# Altium footprint library PcbLib.PcbLib: 43 footprints (part 3 of 3)
Each footprint in its own frame and in the unit in brackets; x right, y up, seen from the top. Pads: shape width x height; smd on the part's side, far side on the other; paste and mask are expansions set on the pad; w line width, h text height; cw(c..) or ccw(c..) is an arc to the next point about the centre after c.
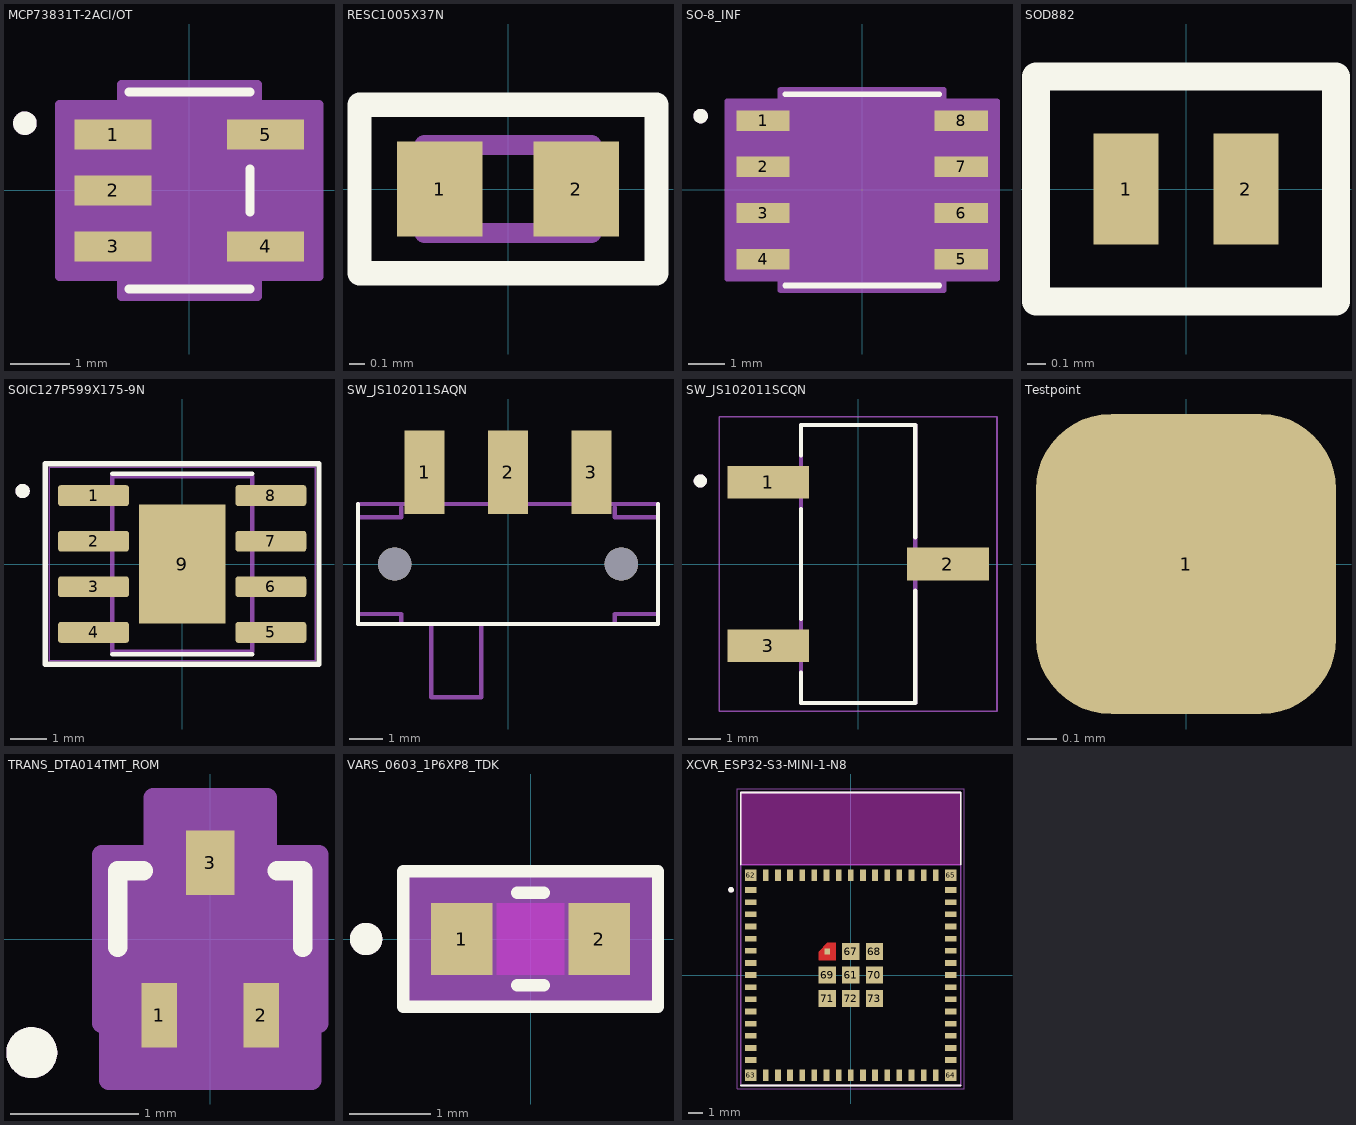
[diagram p2: the footprints below, top view; thin cyan lines are the x and y axes]

## MCP73831T-2ACI/OT [mil]
pads (5):
  rect 51.56x20 smd paste+0 mask+0: 1(-51,37.4) 2(-51,0) 3(-51,-37.4) 4(51,-37.4) 5(51,37.4)
Top Overlay:
  circle w7.87: c-110,45 r3.94
  lines w6: -40.5,-66 40.5,-66 ; -40.5,66 40.5,66 ; 40.5,-14.3 40.5,14.3
Top 3D Body:
  circle w7.87: c-110,45 r3.94
  lines w1: -12,61 ccw(c0,61) 12,61 ; -63,-47.4 -63,-27.4 -35.5,-27.4 -35.5,-47.4 -63,-47.4 ; -63,-10 -63,10 -35.5,10 -35.5,-10 -63,-10 ; -63,27.4 -63,47.4 -35.5,47.4 -35.5,27.4 -63,27.4 ; -35.5,-61 35.5,-61 35.5,61 -35.5,61 -35.5,-61 ; 35.5,-47.4 35.5,-27.4 63,-27.4 63,-47.4 35.5,-47.4 ; 35.5,27.4 35.5,47.4 63,47.4 63,27.4 35.5,27.4
Top Courtyard:
  region: 45.5,-71 -45.5,-71 -45.5,-57.4 -86.78,-57.4 -86.78,57.4 -45.5,57.4 -45.5,71 45.5,71 45.5,57.4 86.78,57.4 86.78,-57.4 45.5,-57.4
  lines w6: -86.78,-57.4 -45.5,-57.4 -45.5,-71 45.5,-71 45.5,-57.4 86.78,-57.4 86.78,57.4 45.5,57.4 45.5,71 -45.5,71 -45.5,57.4 -86.78,57.4 -86.78,-57.4
3D body "SOT-23-5_MC_MCH.step": height 57.09, standoff 0, extent -62.99,-60.98 62.99,60.98

## RESC1005X37N [mm]
pads (2):
  rect 0.54x0.6 smd: 1(-0.432,0) 2(0.432,0)
Top Overlay:
  lines w0.152: -0.94,-0.533 -0.94,0.533 0.94,0.533 0.94,-0.533 -0.94,-0.533
Top 3D Body:
  lines w0.127: -0.53,-0.28 0.53,-0.28 0.53,0.28 -0.53,0.28 -0.53,-0.28
Top Courtyard:
  lines w0.05: -0.95,-0.55 0.95,-0.55 0.95,0.55 -0.95,0.55 -0.95,-0.55
3D body "step_temp.STEP": height 0.37, standoff 0, extent -0.5,-0.25 0.5,0.25

## SO-8_INF [mil]
pads (8):
  rect 57.5x22 smd paste+0 mask+0: 1(-107.25,75) 2(-107.25,25) 3(-107.25,-25) 4(-107.25,-75) 5(107.25,-75) 6(107.25,-25) 7(107.25,25) 8(107.25,75)
Top Overlay:
  circle w7.87: c-175,80 r3.94
  lines w6: -83.5,-103.5 83.5,-103.5 ; -83.5,103.5 83.5,103.5
Top 3D Body:
  circle w7.87: c-175,80 r3.94
  lines w1: -12,98.5 ccw(c0,98.5) 12,98.5 ; -122,-85 -122,-65 -78.5,-65 -78.5,-85 -122,-85 ; -122,-35 -122,-15 -78.5,-15 -78.5,-35 -122,-35 ; -122,15 -122,35 -78.5,35 -78.5,15 -122,15 ; -122,65 -122,85 -78.5,85 -78.5,65 -122,65 ; -78.5,-98.5 78.5,-98.5 78.5,98.5 -78.5,98.5 -78.5,-98.5 ; 78.5,-85 78.5,-65 122,-65 122,-85 78.5,-85 ; 78.5,-35 78.5,-15 122,-15 122,-35 78.5,-35 ; 78.5,15 78.5,35 122,35 122,15 78.5,15 ; 78.5,65 78.5,85 122,85 122,65 78.5,65
Top Courtyard:
  region: -88.5,-96 -146,-96 -146,96 -88.5,96 -88.5,108.5 88.5,108.5 88.5,96 146,96 146,-96 88.5,-96 88.5,-108.5 -88.5,-108.5
  lines w6: -146,-96 -146,96 -88.5,96 -88.5,108.5 88.5,108.5 88.5,96 146,96 146,-96 88.5,-96 88.5,-108.5 -88.5,-108.5 -88.5,-96 -146,-96
3D body "SO-8_INF.step": height 69.09, standoff 0, extent -122.01,-98.5 122.01,98.5

## SOD882 [mm]
pads (2):
  rect 0.35x0.6 smd: 1(-0.325,0) 2(0.325,0)
Top Overlay:
  lines w0.152: -0.813,-0.61 0.813,-0.61 ; -0.813,-0.584 -0.813,0.61 0.813,0.61 0.813,-0.584
3D body "AQ3045-01ETG.STEP": height 0.56, standoff 0.01, extent -0.5,-0.3 0.5,0.3

## SOIC127P599X175-9N [mm]
pads (9):
  rrect25% 1.97x0.58 smd paste+0 mask+0.102: 1(-2.47,1.905) 2(-2.47,0.635) 3(-2.47,-0.635) 4(-2.47,-1.905) 5(2.47,-1.905) 6(2.47,-0.635) 7(2.47,0.635) 8(2.47,1.905)
  rect 2.413x3.302 smd paste-3 mask+0.102: 9(0,0)
Top Overlay:
  circle w0.2: c-4.445,2.032 r0.1
  lines w0.127: -1.949,-2.515 1.949,-2.515 ; -1.949,2.515 1.949,2.515
  lines w0.152: -3.81,-2.794 -3.81,2.794 3.81,2.794 3.81,-2.794 -3.81,-2.794
Top Paste:
  region: 0.76,-1.04 -0.76,-1.04 -0.76,1.04 0.76,1.04
Top 3D Body:
  circle w0.2: c-4.445,2.032 r0.1
  lines w0.127: -1.949,-2.445 -1.949,2.445 1.949,2.445 1.949,-2.445 -1.949,-2.445
Top Courtyard:
  lines w0.05: -3.705,-2.695 -3.705,2.695 3.705,2.695 3.705,-2.695 -3.705,-2.695
3D body "RT7258GSP.STEP": height 1.77, standoff 0.01, extent -2.998,-2.451 2.998,2.451

## SW_JS102011SAQN [mm]
pads (5):
  rect 1.2x2.5 smd: 1(-2.5,2.75) 2(0,2.75) 3(2.5,2.75)
  round 1 hole 1 unplated: ""(-3.4,0) ""(3.4,0)
Top Overlay:
  lines w0.127: -4.5,1.8 -4.5,-1.8 4.5,-1.8 4.5,1.8
Top 3D Body:
  region: -2.2,1.801 -2.801,1.801 -2.801,3.7 -2.2,3.7
  region: -2.2,1.801 -2.801,1.801 -2.801,3.7 -2.2,3.7
  region: 0.3,1.8 -0.3,1.8 -0.3,3.7 0.3,3.7
  region: 2.8,1.803 2.204,1.803 2.204,3.7 2.8,3.7
  lines w0.127: -4.5,-1.5 -3.2,-1.5 -3.2,-1.8 ; -4.5,1.4 -3.2,1.4 -3.2,1.7 ; -4.5,1.8 4.5,1.8 ; -2.3,-1.8 -2.3,-4 -0.8,-4 -0.8,-1.8 ; 3.2,-1.8 3.2,-1.5 4.5,-1.5 ; 3.2,1.7 3.2,1.4 4.5,1.4
3D body "step_temp.STEP": height 3.22, standoff -1.08, extent -4.5,-3.75 4.5,3.75

## SW_JS102011SCQN [mm]
height 5.5
pads (3):
  rect 2.5x1 smd: 1(-2.75,2.5) 2(2.75,0) 3(-2.75,-2.5)
Top Overlay:
  circle w0.2: c-4.826,2.54 r0.1
  lines w0.127: -1.75,-3.32 -1.75,-4.25 1.75,-4.25 1.75,-0.82 ; -1.75,-1.68 -1.75,1.68 ; -1.75,3.32 -1.75,4.25 1.75,4.25 1.75,0.82
Top 3D Body:
  circle w0.2: c-4.826,2.54 r0.1
  lines w0.127: -1.75,-4.25 1.75,-4.25 1.75,4.25 -1.75,4.25 -1.75,-4.25
Top Courtyard:
  lines w0.05: -4.25,-4.5 4.25,-4.5 4.25,4.5 -4.25,4.5 -4.25,-4.5
3D body "JS102011SCQN.stp": height 5.51, standoff 0.01, extent -3.75,-4.25 3.75,4.25

## Testpoint [mil]
pads (1):
  rrect50% 40x40 smd paste-99999 mask+4: 1(0,0)

## TRANS_DTA014TMT_ROM [mil]
pads (3):
  rect 11x20 smd paste+0 mask+0: 1(-15.75,-23.5) 2(15.75,-23.5)
  rect 15x20 smd paste+0 mask+0: 3(0,23.5)
Top Overlay:
  circle w7.87: c-55,-35 r3.94
  lines w6: -28.5,-2.59 -28.5,21 -20.6,21 ; 20.6,21 28.5,21 28.5,-2.59
Top 3D Body:
  circle w7.87: c-55,-35 r3.94
  circle w0: c-13.5,-6 r5
  lines w1: -23.5,-16 -23.5,16 23.5,16 23.5,-16 -23.5,-16 ; -21.25,-25.5 -10.25,-25.5 -10.25,-16 -21.25,-16 -21.25,-25.5 ; -7.5,16 -7.5,25.5 7.5,25.5 7.5,16 -7.5,16 ; 10.25,-25.5 21.25,-25.5 21.25,-16 10.25,-16 10.25,-25.5
Top Courtyard:
  region: 23.5,-16 -23.5,-16 -23.5,16 23.5,16
  region: -33.5,-26 -33.5,26 -17.5,26 -17.5,43.5 17.5,43.5 17.5,26 33.5,26 33.5,-26 31.25,-26 31.25,-43.5 -31.25,-43.5 -31.25,-26
  lines w6: -33.5,-26 -31.25,-26 -31.25,-43.5 31.25,-43.5 31.25,-26 33.5,-26 33.5,26 17.5,26 17.5,43.5 -17.5,43.5 -17.5,26 -33.5,26 -33.5,-26
3D body "TRANS_DTA014TMT_ROM.step": height 24.09, standoff 0, extent -23.5,-19.51 23.5,19.51

## VARS_0603_1P6XP8_TDK [mil]
pads (2):
  rect 30x35 smd paste+0 mask+0: 1(-33.5,0) 2(33.5,0)
Top Layer keep-out:
  region: -16.5,-15.5 -16.5,15.5 16.5,15.5 16.5,-15.5
Top Overlay:
  circle w7.87: c-80,0 r3.94
  lines w6: -6.39,-22.5 6.39,-22.5 ; -6.39,22.5 6.39,22.5 ; -62,-33 62,-33 62,33 -62,33 -62,-33
Keep-Out Layer:
  region: -16.5,-17.5 -16.5,17.5 16.5,17.5 16.5,-17.5
Top 3D Body:
  circle w7.87: c-80,0 r3.94
  circle w1: c-28.5,0 r3
  lines w1: -34.5,-17.5 -34.5,17.5 ; -34.5,-17.5 -18.5,-17.5 -18.5,17.5 -34.5,17.5 ; -34.5,-17.5 34.5,-17.5 ; -34.5,-17.5 -34.5,17.5 ; -34.5,17.5 34.5,17.5 ; 34.5,-17.5 18.5,-17.5 18.5,17.5 34.5,17.5 ; 34.5,-17.5 34.5,17.5 ; 34.5,-17.5 34.5,17.5
Top Courtyard:
  region: 58.5,-27.5 -58.5,-27.5 -58.5,27.5 58.5,27.5
  lines w6: -58.5,-27.5 -58.5,27.5 58.5,27.5 58.5,-27.5 -58.5,-27.5
3D body "VARS_0603_1P6XP8_TDK.step": height 35, standoff 0, extent -34.49,-17.48 34.49,17.48

## XCVR_ESP32-S3-MINI-1-N8 [mm]
height 2.55
pads (73):
  rect 0.8x0.4 smd: 1(-7,5.95) 2(-7,5.1) 3(-7,4.25) 4(-7,3.4) 5(-7,2.55) 6(-7,1.7) 7(-7,0.85) 8(-7,0) 9(-7,-0.85) 10(-7,-1.7) 11(-7,-2.55) 12(-7,-3.4) 13(-7,-4.25) 14(-7,-5.1) 15(-7,-5.95) 31(7,-5.95) 32(7,-5.1) 33(7,-4.25) 34(7,-3.4) 35(7,-2.55) 36(7,-1.7) 37(7,-0.85) 38(7,0) 39(7,0.85) 40(7,1.7) 41(7,2.55) 42(7,3.4) 43(7,4.25) 44(7,5.1) 45(7,5.95)
  rect 0.4x0.8 smd: 16(-5.95,-7) 17(-5.1,-7) 18(-4.25,-7) 19(-3.4,-7) 20(-2.55,-7) 21(-1.7,-7) 22(-0.85,-7) 23(0,-7) 24(0.85,-7) 25(1.7,-7) 26(2.55,-7) 27(3.4,-7) 28(4.25,-7) 29(5.1,-7) 30(5.95,-7) 46(5.95,7) 47(5.1,7) 48(4.25,7) 49(3.4,7) 50(2.55,7) 51(1.7,7) 52(0.85,7) 53(0,7) 54(-0.85,7) 55(-1.7,7) 56(-2.55,7) 57(-3.4,7) 58(-4.25,7) 59(-5.1,7) 60(-5.95,7)
  rect 1.2x1.2 smd: 61(0,0) 67(0,1.65) 68(1.65,1.65) 69(-1.65,0) 70(1.65,0) 71(-1.65,-1.65) 72(0,-1.65) 73(1.65,-1.65)
  rect 0.8x0.8 smd: 62(-7,7) 63(-7,-7) 64(7,-7) 65(7,7)
  rect 0.4x0.4 smd paste-1 mask+0: 66(-1.65,1.65)
Top Layer:
  region: -1.05,1.05 -2.25,1.05 -2.25,1.65 -1.65,2.25 -1.05,2.25
Top Overlay:
  circle w0.2: c-8.382,5.969 r0.1
  lines w0.127: -7.7,-7.725 7.7,-7.725 ; -7.7,7.725 -7.7,12.775 7.7,12.775 7.7,7.725
Top Paste:
  region: -1.05,1.05 -2.25,1.05 -2.25,1.65 -1.65,2.25 -1.05,2.25
Top Solder:
  region: -0.95,0.95 -2.35,0.95 -2.35,1.7 -1.7,2.35 -0.95,2.35
Keep-Out Layer:
  region: 7.7,7.725 -7.7,7.725 -7.7,12.775 7.7,12.775
  region: 7.7,7.725 -7.7,7.725 -7.7,12.775 7.7,12.775
Top 3D Body:
  circle w0.2: c-8.382,5.969 r0.1
  lines w0.127: -7.7,7.725 -7.7,-7.725 7.7,-7.725 7.7,7.725 ; -7.7,7.725 -7.7,12.775 7.7,12.775 7.7,7.725 ; -7.7,7.725 7.7,7.725
Top Courtyard:
  lines w0.05: -7.95,-7.975 -7.95,13.025 7.95,13.025 7.95,-7.975 -7.95,-7.975
3D body "ESP32-S3-MINI-1-N8--3DModel-STEP-510211.STEP": height 2.56, standoff 0.01, extent -7.7,-7.71 7.7,12.79